# Altium integrated library NSC ADC.IntLib: 493 symbols (part 6 of 17)
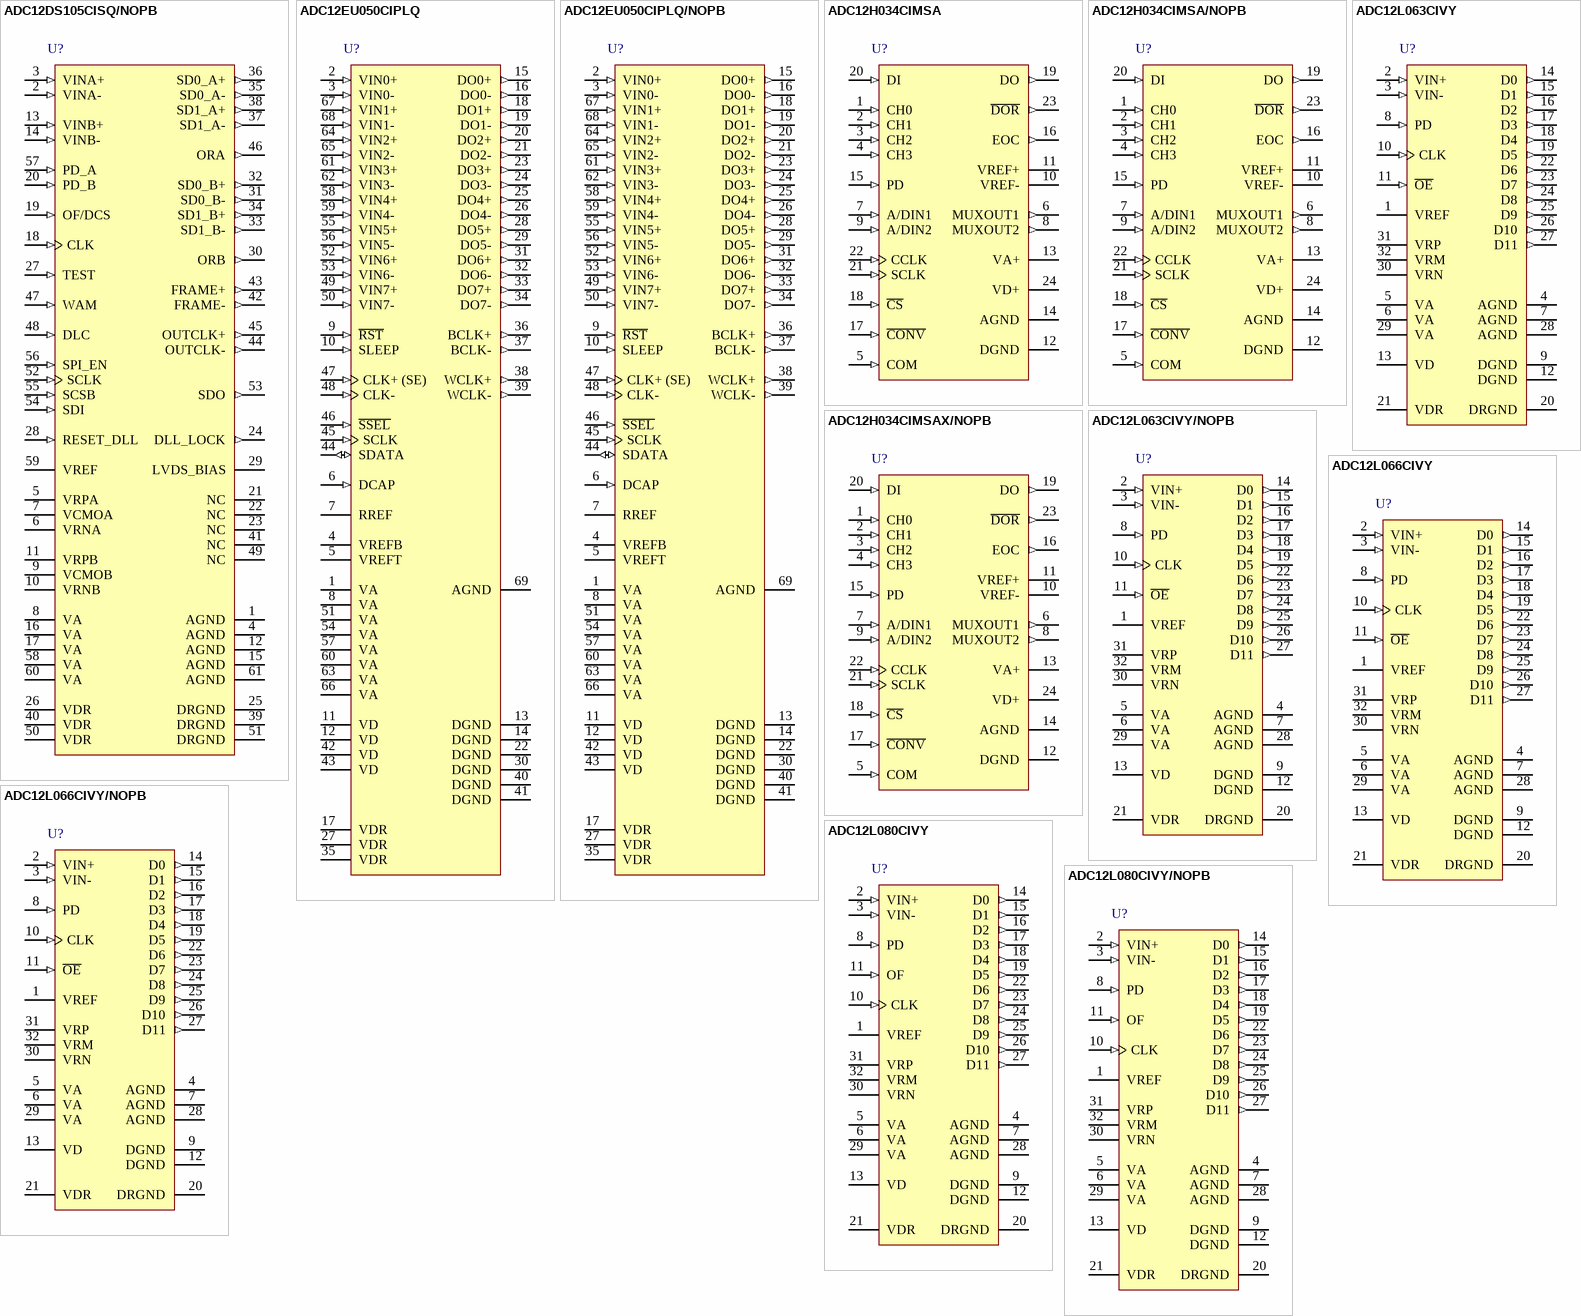
[diagram p41: symbols ADC12DS105CISQ/NOPB to ADC12L080CIVY/NOPB]

## ADC12EU050CIPLQ
designator U?
Ultra-Low Power, Octal, 12-bit, 40-50 MSPS Sigma-Delta Analog-to-Digital Converter, 69-pin LLP; PartNumber: ADC12EU050CIPLQ; Manufacturer: National Semiconductor; PackageTopMarking: NS*UZXYTT*12EU050P; PowerWise: N; CompType: ADC IC; Published: 4-Dec-2008; DatasheetVersion: Oct-2009; PackageVersion: revB, Jul-2009; PackageReference: LQA68A; Publisher: Altium Limited; PackageDescription: LLP, Plastic, Quad, 10 x 10 x 1mm Body, 68 Lead, 0.5mm Pitch (7.7 x 7.7mm Exposed Pad); Supplier 1: Farnell; Supplier Part Number 1: 1689550; RoHS: Y; PinCount: 68; ComponentLink1Description: ADC12EU050 Datasheet; ComponentLink1URL: http://www.national.com/ds/AD/ADC12EU050.pdf; ComponentLink2Description: ADC12EU050 Web Page; ComponentLink2URL: http://www.national.com/pf/AD/ADC12EU050.html; ComponentLink3Description: LQA68A Package Page; ComponentLink3URL: http://www.national.com/packaging/folders/lqa68a.html
footprint LQA68A (QFN, 68-Leads, Body 10x10mm, Pitch 0.5mm, NSC Recommended)
pins: 1 VA (power), 2 VIN0+ (in), 3 VIN0- (in), 4 VREFB (power), 5 VREFT (power), 6 DCAP (in), 7 RREF, 8 VA (power), 9 ~{RST} (in), 10 SLEEP (in), 11 VD (power), 12 VD (power), 13 DGND (power), 14 DGND (power), 15 DO0+ (out), 16 DO0- (out), 17 VDR (power), 18 DO1+ (out), 19 DO1- (out), 20 DO2+ (out), 21 DO2- (out), 22 DGND (power), 23 DO3+ (out), 24 DO3- (out), 25 DO4+ (out), 26 DO4- (out), 27 VDR (power), 28 DO5+ (out), 29 DO5- (out), 30 DGND (power), 31 DO6+ (out), 32 DO6- (out), 33 DO7+ (out), 34 DO7- (out), 35 VDR (power), 36 BCLK+ (out), 37 BCLK- (out), 38 WCLK+ (out), 39 WCLK- (out), 40 DGND (power), 41 DGND (power), 42 VD (power), 43 VD (power), 44 SDATA (io), 45 SCLK (in), 46 ~{SSEL} (in), 47 CLK+ (SE) (in), 48 CLK- (in), 49 VIN7+ (in), 50 VIN7- (in), 51 VA (power), 52 VIN6+ (in), 53 VIN6- (in), 54 VA (power), 55 VIN5+ (in), 56 VIN5- (in), 57 VA (power), 58 VIN4+ (in), 59 VIN4- (in), 60 VA (power), 61 VIN3+ (in), 62 VIN3- (in), 63 VA (power), 64 VIN2+ (in), 65 VIN2- (in), 66 VA (power), 67 VIN1+ (in), 68 VIN1- (in), 69 AGND (power)

## ADC12EU050CIPLQ/NOPB
designator U?
Ultra-Low Power, Octal, 12-bit, 40-50 MSPS Sigma-Delta Analog-to-Digital Converter, 68-pin LLP, Pb-Free; PartNumber: ADC12EU050CIPLQ/NOPB; Manufacturer: National Semiconductor; PackageTopMarking: NS*UZXYTTE#*12EU050P; PowerWise: Y; CompType: ADC IC; Published: 1-Mar-2010; DatasheetVersion: Oct-2009; PackageVersion: revB, Jul-2009; PackageReference: LQA68A; Publisher: Altium Limited; PackageDescription: LLP, Plastic, Quad, 10 x 10 x 1mm Body, 68 Lead, 0.5mm Pitch (7.7 x 7.7mm Exposed Pad); Supplier 1: Digi-Key; Supplier Part Number 1: ADC12EU050CIPLQ-ND; Supplier 2: Farnell; Supplier Part Number 2: 1690910; RoHS: Y; PinCount: 68; ComponentLink1Description: ADC12EU050 Datasheet; ComponentLink1URL: http://www.national.com/ds/AD/ADC12EU050.pdf; ComponentLink2Description: ADC12EU050 Web Page; ComponentLink2URL: http://www.national.com/pf/AD/ADC12EU050.html; ComponentLink3Description: LQA68A Package Page; ComponentLink3URL: http://www.national.com/packaging/folders/lqa68a.html
footprint LQA68A (QFN, 68-Leads, Body 10x10mm, Pitch 0.5mm, NSC Recommended)
pins: 1 VA (power), 2 VIN0+ (in), 3 VIN0- (in), 4 VREFB (power), 5 VREFT (power), 6 DCAP (in), 7 RREF, 8 VA (power), 9 ~{RST} (in), 10 SLEEP (in), 11 VD (power), 12 VD (power), 13 DGND (power), 14 DGND (power), 15 DO0+ (out), 16 DO0- (out), 17 VDR (power), 18 DO1+ (out), 19 DO1- (out), 20 DO2+ (out), 21 DO2- (out), 22 DGND (power), 23 DO3+ (out), 24 DO3- (out), 25 DO4+ (out), 26 DO4- (out), 27 VDR (power), 28 DO5+ (out), 29 DO5- (out), 30 DGND (power), 31 DO6+ (out), 32 DO6- (out), 33 DO7+ (out), 34 DO7- (out), 35 VDR (power), 36 BCLK+ (out), 37 BCLK- (out), 38 WCLK+ (out), 39 WCLK- (out), 40 DGND (power), 41 DGND (power), 42 VD (power), 43 VD (power), 44 SDATA (io), 45 SCLK (in), 46 ~{SSEL} (in), 47 CLK+ (SE) (in), 48 CLK- (in), 49 VIN7+ (in), 50 VIN7- (in), 51 VA (power), 52 VIN6+ (in), 53 VIN6- (in), 54 VA (power), 55 VIN5+ (in), 56 VIN5- (in), 57 VA (power), 58 VIN4+ (in), 59 VIN4- (in), 60 VA (power), 61 VIN3+ (in), 62 VIN3- (in), 63 VA (power), 64 VIN2+ (in), 65 VIN2- (in), 66 VA (power), 67 VIN1+ (in), 68 VIN1- (in), 69 AGND (power)

## ADC12H034CIMSA
designator U?
Self-Calibrating 12-Bit Plus Sign Serial I/O A/D Converters with MUX and Sample/Hold, 24-pin SSOP; PartNumber: ADC12H034CIMSA; Manufacturer: National Semiconductor; PackageTopMarking: NSUZXYTTE#*ADC12H034*CIMSA; PowerWise: N; CompType: ADC IC; Published: 4-Dec-2008; LatestRevisionDate: 1-Oct-2010; LatestRevisionNote: Updated datasheet to version Sep-2008.; DatasheetVersion: Sep-2008; PackageVersion: revC, Nov-2002; PackageReference: MSA24; Publisher: Altium Limited; PackageDescription: Molded SSOP, 8.2 x 5.3mm Body, 24 Lead, 0.65mm Pitch; RoHS: N; PinCount: 24; Code_JEDEC: MO-150-AG; ComponentLink1Description: ADC12H034 Datasheet; ComponentLink1URL: http://www.national.com/ds/AD/ADC12H034.pdf; ComponentLink2Description: ADC12H034 Web Page; ComponentLink2URL: http://www.national.com/pf/AD/ADC12H034.html; ComponentLink3Description: MSA24 Package Page; ComponentLink3URL: http://www.national.com/packaging/folders/msa24.html
footprint MSA24_N (SOP, 24-Leads, Body 8.2x5.3mm, Pitch 0.65mm, IPC Medium Density)
footprint MSA24_L (SOP, 24-Leads, Body 8.2x5.3mm, Pitch 0.65mm, IPC High Density)
footprint MSA24_M (SOP, 24-Leads, Body 8.2x5.3mm, Pitch 0.65mm, IPC Low Density)
pins: 1 CH0 (in), 2 CH1 (in), 3 CH2 (in), 4 CH3 (in), 5 COM (in), 6 MUXOUT1 (out), 7 A/DIN1 (in), 8 MUXOUT2 (out), 9 A/DIN2 (in), 10 VREF- (power), 11 VREF+ (power), 12 DGND (power), 13 VA+ (power), 14 AGND (power), 15 PD (in), 16 EOC (out), 17 ~{CONV} (in), 18 ~{CS} (in), 19 DO (out), 20 DI (in), 21 SCLK (in), 22 CCLK (in), 23 ~{DOR} (out), 24 VD+ (power)

## ADC12H034CIMSA/NOPB
designator U?
Self-Calibrating 12-Bit Plus Sign Serial I/O A/D Converters with MUX and Sample/Hold, 24 pin SSOP-EIAJ; PartNumber: ADC12H034CIMSA/NOPB; Manufacturer: National Semiconductor; PackageTopMarking: NSUZXYTTE#*ADC12H034*CIMSA; PowerWise: N; CompType: ADC IC; Published: 16-Nov-2010; DatasheetVersion: Sep-2008; PackageVersion: revC, Nov-2002; PackageReference: MSA24; Publisher: Altium Limited; PackageDescription: Molded SSOP, 8.2 x 5.3mm Body, 24 Lead, 0.65mm Pitch; Supplier 1: Digi-Key; Supplier Part Number 1: ADC12H034CIMSA-ND; RoHS: Y; PinCount: 24; Code_JEDEC: MO-150-AG; ComponentLink1Description: ADC12H034 Datasheet; ComponentLink1URL: http://www.national.com/ds/AD/ADC12H034.pdf; ComponentLink2Description: ADC12H034 Web Page; ComponentLink2URL: http://www.national.com/pf/AD/ADC12H034.html; ComponentLink3Description: MSA24 Package Page; ComponentLink3URL: http://www.national.com/packaging/folders/msa24.html
footprint MSA24_N (SOP, 24-Leads, Body 8.2x5.3mm, Pitch 0.65mm, IPC Medium Density)
footprint MSA24_L (SOP, 24-Leads, Body 8.2x5.3mm, Pitch 0.65mm, IPC High Density)
footprint MSA24_M (SOP, 24-Leads, Body 8.2x5.3mm, Pitch 0.65mm, IPC Low Density)
pins: 1 CH0 (in), 2 CH1 (in), 3 CH2 (in), 4 CH3 (in), 5 COM (in), 6 MUXOUT1 (out), 7 A/DIN1 (in), 8 MUXOUT2 (out), 9 A/DIN2 (in), 10 VREF- (power), 11 VREF+ (power), 12 DGND (power), 13 VA+ (power), 14 AGND (power), 15 PD (in), 16 EOC (out), 17 ~{CONV} (in), 18 ~{CS} (in), 19 DO (out), 20 DI (in), 21 SCLK (in), 22 CCLK (in), 23 ~{DOR} (out), 24 VD+ (power)

## ADC12H034CIMSAX/NOPB
designator U?
Self-Calibrating 12-Bit Plus Sign Serial I/O A/D Converters with MUX and Sample/Hold, 24 pin SSOP-EIAJ; PartNumber: ADC12H034CIMSAX/NOPB; Manufacturer: National Semiconductor; PackageTopMarking: NSUZXYTTE#*ADC12H034*CIMSA; PowerWise: N; CompType: ADC IC; Published: 16-Nov-2010; DatasheetVersion: Sep-2008; PackageVersion: revC, Nov-2002; PackageReference: MSA24; Publisher: Altium Limited; PackageDescription: Molded SSOP, 8.2 x 5.3mm Body, 24 Lead, 0.65mm Pitch; Supplier 1: Digi-Key; Supplier Part Number 1: ADC12H034CIMSAX-ND; RoHS: Y; PinCount: 24; Code_JEDEC: MO-150-AG; ComponentLink1Description: ADC12H034 Datasheet; ComponentLink1URL: http://www.national.com/ds/AD/ADC12H034.pdf; ComponentLink2Description: ADC12H034 Web Page; ComponentLink2URL: http://www.national.com/pf/AD/ADC12H034.html; ComponentLink3Description: MSA24 Package Page; ComponentLink3URL: http://www.national.com/packaging/folders/msa24.html
footprint MSA24_N (SOP, 24-Leads, Body 8.2x5.3mm, Pitch 0.65mm, IPC Medium Density)
footprint MSA24_L (SOP, 24-Leads, Body 8.2x5.3mm, Pitch 0.65mm, IPC High Density)
footprint MSA24_M (SOP, 24-Leads, Body 8.2x5.3mm, Pitch 0.65mm, IPC Low Density)
pins: 1 CH0 (in), 2 CH1 (in), 3 CH2 (in), 4 CH3 (in), 5 COM (in), 6 MUXOUT1 (out), 7 A/DIN1 (in), 8 MUXOUT2 (out), 9 A/DIN2 (in), 10 VREF- (power), 11 VREF+ (power), 12 DGND (power), 13 VA+ (power), 14 AGND (power), 15 PD (in), 16 EOC (out), 17 ~{CONV} (in), 18 ~{CS} (in), 19 DO (out), 20 DI (in), 21 SCLK (in), 22 CCLK (in), 23 ~{DOR} (out), 24 VD+ (power)

## ADC12L063CIVY
designator U?
12-Bit, 62 MSPS, 354mW A/D Converter with Internal Sample-and-Hold, 32-pin LQFP; PartNumber: ADC12L063CIVY; Manufacturer: National Semiconductor; PackageTopMarking: NSUZXYTT*ADC12L0*63CIVY; PowerWise: N; CompType: ADC IC; Published: 4-Dec-2008; DatasheetVersion: Jul-2001; PackageVersion: revE, Dec-1999; PackageReference: VBE32A; Publisher: Altium Limited; PackageDescription: LQFP, JEDEC, Metric, 7 x 7 x 1.4mm, 32 Lead; RoHS: N; PinCount: 32; ComponentLink1Description: ADC12L063 Datasheet; ComponentLink1URL: http://www.national.com/ds/AD/ADC12L063.pdf; ComponentLink2Description: ADC12L063 Web Page; ComponentLink2URL: http://www.national.com/pf/AD/ADC12L063.html; ComponentLink3Description: VBE32A Package Page; ComponentLink3URL: http://www.national.com/packaging/folders/vbe32a.html
footprint VBE32A_N (Thin QFP, 32-Leads, Body 7x7mm, Pitch 0.8mm, IPC Medium Density)
footprint VBE32A_L (Thin QFP, 32-Leads, Body 7x7mm, Pitch 0.8mm, IPC High Density)
footprint VBE32A_M (Thin QFP, 32-Leads, Body 7x7mm, Pitch 0.8mm, IPC Low Density)
pins: 1 VREF (power), 2 VIN+ (in), 3 VIN- (in), 4 AGND (power), 5 VA (power), 6 VA (power), 7 AGND (power), 8 PD (in), 9 DGND (power), 10 CLK (in), 11 ~{OE} (in), 12 DGND (power), 13 VD (power), 14 D0 (out), 15 D1 (out), 16 D2 (out), 17 D3 (out), 18 D4 (out), 19 D5 (out), 20 DRGND (power), 21 VDR (power), 22 D6 (out), 23 D7 (out), 24 D8 (out), 25 D9 (out), 26 D10 (out), 27 D11 (out), 28 AGND (power), 29 VA (power), 30 VRN, 31 VRP, 32 VRM

## ADC12L063CIVY/NOPB
designator U?
12-Bit, 62 MSPS, 354mW A/D Converter with Internal Sample-and-Hold, 32-pin LQFP, Pb-Free; PartNumber: ADC12L063CIVY/NOPB; Manufacturer: National Semiconductor; PackageTopMarking: NSUZXYTT*ADC12L0*63CIVY; PowerWise: N; CompType: ADC IC; Published: 1-Mar-2010; DatasheetVersion: Jul-2001; PackageVersion: revE, Dec-1999; PackageReference: VBE32A; Publisher: Altium Limited; PackageDescription: LQFP, JEDEC, Metric, 7 x 7 x 1.4mm, 32 Lead; Supplier 1: Digi-Key; Supplier Part Number 1: ADC12L063CIVY-ND; RoHS: Y; PinCount: 32; ComponentLink1Description: ADC12L063 Datasheet; ComponentLink1URL: http://www.national.com/ds/AD/ADC12L063.pdf; ComponentLink2Description: ADC12L063 Web Page; ComponentLink2URL: http://www.national.com/pf/AD/ADC12L063.html; ComponentLink3Description: VBE32A Package Page; ComponentLink3URL: http://www.national.com/packaging/folders/vbe32a.html
footprint VBE32A_N (Thin QFP, 32-Leads, Body 7x7mm, Pitch 0.8mm, IPC Medium Density)
footprint VBE32A_L (Thin QFP, 32-Leads, Body 7x7mm, Pitch 0.8mm, IPC High Density)
footprint VBE32A_M (Thin QFP, 32-Leads, Body 7x7mm, Pitch 0.8mm, IPC Low Density)
pins: 1 VREF (power), 2 VIN+ (in), 3 VIN- (in), 4 AGND (power), 5 VA (power), 6 VA (power), 7 AGND (power), 8 PD (in), 9 DGND (power), 10 CLK (in), 11 ~{OE} (in), 12 DGND (power), 13 VD (power), 14 D0 (out), 15 D1 (out), 16 D2 (out), 17 D3 (out), 18 D4 (out), 19 D5 (out), 20 DRGND (power), 21 VDR (power), 22 D6 (out), 23 D7 (out), 24 D8 (out), 25 D9 (out), 26 D10 (out), 27 D11 (out), 28 AGND (power), 29 VA (power), 30 VRN, 31 VRP, 32 VRM

## ADC12L066CIVY
designator U?
12-Bit, 66 MSPS, 450 MHz Bandwidth A/D Converter with Internal Sample-and-Hold, 32-pin LQFP; PartNumber: ADC12L066CIVY; Manufacturer: National Semiconductor; PackageTopMarking: NSUZXYTT*ADC12L0*66CIVY; PowerWise: N; CompType: ADC IC; Published: 4-Dec-2008; DatasheetVersion: May-2009; PackageVersion: revE, Dec-1999; PackageReference: VBE32A; Publisher: Altium Limited; PackageDescription: LQFP, JEDEC, Metric, 7 x 7 x 1.4mm, 32 Lead; RoHS: N; PinCount: 32; ComponentLink1Description: ADC12L066 Datasheet; ComponentLink1URL: http://www.national.com/ds/AD/ADC12L066.pdf; ComponentLink2Description: ADC12L066 Web Page; ComponentLink2URL: http://www.national.com/pf/AD/ADC12L066.html; ComponentLink3Description: VBE32A Package Page; ComponentLink3URL: http://www.national.com/packaging/folders/vbe32a.html
footprint VBE32A_N (Thin QFP, 32-Leads, Body 7x7mm, Pitch 0.8mm, IPC Medium Density)
footprint VBE32A_L (Thin QFP, 32-Leads, Body 7x7mm, Pitch 0.8mm, IPC High Density)
footprint VBE32A_M (Thin QFP, 32-Leads, Body 7x7mm, Pitch 0.8mm, IPC Low Density)
pins: 1 VREF (power), 2 VIN+ (in), 3 VIN- (in), 4 AGND (power), 5 VA (power), 6 VA (power), 7 AGND (power), 8 PD (in), 9 DGND (power), 10 CLK (in), 11 ~{OE} (in), 12 DGND (power), 13 VD (power), 14 D0 (out), 15 D1 (out), 16 D2 (out), 17 D3 (out), 18 D4 (out), 19 D5 (out), 20 DRGND (power), 21 VDR (power), 22 D6 (out), 23 D7 (out), 24 D8 (out), 25 D9 (out), 26 D10 (out), 27 D11 (out), 28 AGND (power), 29 VA (power), 30 VRN, 31 VRP, 32 VRM

## ADC12L066CIVY/NOPB
designator U?
12-Bit, 66 MSPS, 450 MHz Bandwidth A/D Converter with Internal Sample-and-Hold, 32-pin LQFP, Pb-Free; PartNumber: ADC12L066CIVY/NOPB; Manufacturer: National Semiconductor; PackageTopMarking: NSUZXYTT*ADC12L0*66CIVY; PowerWise: N; CompType: ADC IC; Published: 1-Mar-2010; DatasheetVersion: May-2009; PackageVersion: revE, Dec-1999; PackageReference: VBE32A; Publisher: Altium Limited; PackageDescription: LQFP, JEDEC, Metric, 7 x 7 x 1.4mm, 32 Lead; Supplier 1: Digi-Key; Supplier Part Number 1: ADC12L066CIVY-ND; RoHS: Y; PinCount: 32; ComponentLink1Description: ADC12L066 Datasheet; ComponentLink1URL: http://www.national.com/ds/AD/ADC12L066.pdf; ComponentLink2Description: ADC12L066 Web Page; ComponentLink2URL: http://www.national.com/pf/AD/ADC12L066.html; ComponentLink3Description: VBE32A Package Page; ComponentLink3URL: http://www.national.com/packaging/folders/vbe32a.html
footprint VBE32A_N (Thin QFP, 32-Leads, Body 7x7mm, Pitch 0.8mm, IPC Medium Density)
footprint VBE32A_L (Thin QFP, 32-Leads, Body 7x7mm, Pitch 0.8mm, IPC High Density)
footprint VBE32A_M (Thin QFP, 32-Leads, Body 7x7mm, Pitch 0.8mm, IPC Low Density)
pins: 1 VREF (power), 2 VIN+ (in), 3 VIN- (in), 4 AGND (power), 5 VA (power), 6 VA (power), 7 AGND (power), 8 PD (in), 9 DGND (power), 10 CLK (in), 11 ~{OE} (in), 12 DGND (power), 13 VD (power), 14 D0 (out), 15 D1 (out), 16 D2 (out), 17 D3 (out), 18 D4 (out), 19 D5 (out), 20 DRGND (power), 21 VDR (power), 22 D6 (out), 23 D7 (out), 24 D8 (out), 25 D9 (out), 26 D10 (out), 27 D11 (out), 28 AGND (power), 29 VA (power), 30 VRN, 31 VRP, 32 VRM

## ADC12L080CIVY
designator U?
12-Bit, 80 MSPS, 450 MHz Bandwidth A/D Converter with Internal Reference, 32-pin LQFP; PartNumber: ADC12L080CIVY; Manufacturer: National Semiconductor; PackageTopMarking: NSUZXYTT*ADC12L0*80CIVY; PowerWise: N; CompType: ADC IC; Published: 4-Dec-2008; DatasheetVersion: Oct-2004; PackageVersion: revE, Dec-1999; PackageReference: VBE32A; Publisher: Altium Limited; PackageDescription: LQFP, JEDEC, Metric, 7 x 7 x 1.4mm, 32 Lead; RoHS: N; PinCount: 32; ComponentLink1Description: ADC12L080 Datasheet; ComponentLink1URL: http://www.national.com/ds/AD/ADC12L080.pdf; ComponentLink2Description: ADC12L080 Web Page; ComponentLink2URL: http://www.national.com/pf/AD/ADC12L080.html; ComponentLink3Description: VBE32A Package Page; ComponentLink3URL: http://www.national.com/packaging/folders/vbe32a.html
footprint VBE32A_N (Thin QFP, 32-Leads, Body 7x7mm, Pitch 0.8mm, IPC Medium Density)
footprint VBE32A_L (Thin QFP, 32-Leads, Body 7x7mm, Pitch 0.8mm, IPC High Density)
footprint VBE32A_M (Thin QFP, 32-Leads, Body 7x7mm, Pitch 0.8mm, IPC Low Density)
pins: 1 VREF (power), 2 VIN+ (in), 3 VIN- (in), 4 AGND (power), 5 VA (power), 6 VA (power), 7 AGND (power), 8 PD (in), 9 DGND (power), 10 CLK (in), 11 OF (in), 12 DGND (power), 13 VD (power), 14 D0 (out), 15 D1 (out), 16 D2 (out), 17 D3 (out), 18 D4 (out), 19 D5 (out), 20 DRGND (power), 21 VDR (power), 22 D6 (out), 23 D7 (out), 24 D8 (out), 25 D9 (out), 26 D10 (out), 27 D11 (out), 28 AGND (power), 29 VA (power), 30 VRN, 31 VRP, 32 VRM

## ADC12L080CIVY/NOPB
designator U?
12-Bit, 80 MSPS, 450 MHz Bandwidth A/D Converter with Internal Reference, 32-pin LQFP, Pb-Free; PartNumber: ADC12L080CIVY/NOPB; Manufacturer: National Semiconductor; PackageTopMarking: NSUZXYTT*ADC12L0*80CIVY; PowerWise: N; CompType: ADC IC; Published: 1-Mar-2010; DatasheetVersion: Oct-2004; PackageVersion: revE, Dec-1999; PackageReference: VBE32A; Publisher: Altium Limited; PackageDescription: LQFP, JEDEC, Metric, 7 x 7 x 1.4mm, 32 Lead; Supplier 1: Digi-Key; Supplier Part Number 1: ADC12L080CIVY-ND; RoHS: Y; PinCount: 32; ComponentLink1Description: ADC12L080 Datasheet; ComponentLink1URL: http://www.national.com/ds/AD/ADC12L080.pdf; ComponentLink2Description: ADC12L080 Web Page; ComponentLink2URL: http://www.national.com/pf/AD/ADC12L080.html; ComponentLink3Description: VBE32A Package Page; ComponentLink3URL: http://www.national.com/packaging/folders/vbe32a.html
footprint VBE32A_N (Thin QFP, 32-Leads, Body 7x7mm, Pitch 0.8mm, IPC Medium Density)
footprint VBE32A_L (Thin QFP, 32-Leads, Body 7x7mm, Pitch 0.8mm, IPC High Density)
footprint VBE32A_M (Thin QFP, 32-Leads, Body 7x7mm, Pitch 0.8mm, IPC Low Density)
pins: 1 VREF (power), 2 VIN+ (in), 3 VIN- (in), 4 AGND (power), 5 VA (power), 6 VA (power), 7 AGND (power), 8 PD (in), 9 DGND (power), 10 CLK (in), 11 OF (in), 12 DGND (power), 13 VD (power), 14 D0 (out), 15 D1 (out), 16 D2 (out), 17 D3 (out), 18 D4 (out), 19 D5 (out), 20 DRGND (power), 21 VDR (power), 22 D6 (out), 23 D7 (out), 24 D8 (out), 25 D9 (out), 26 D10 (out), 27 D11 (out), 28 AGND (power), 29 VA (power), 30 VRN, 31 VRP, 32 VRM

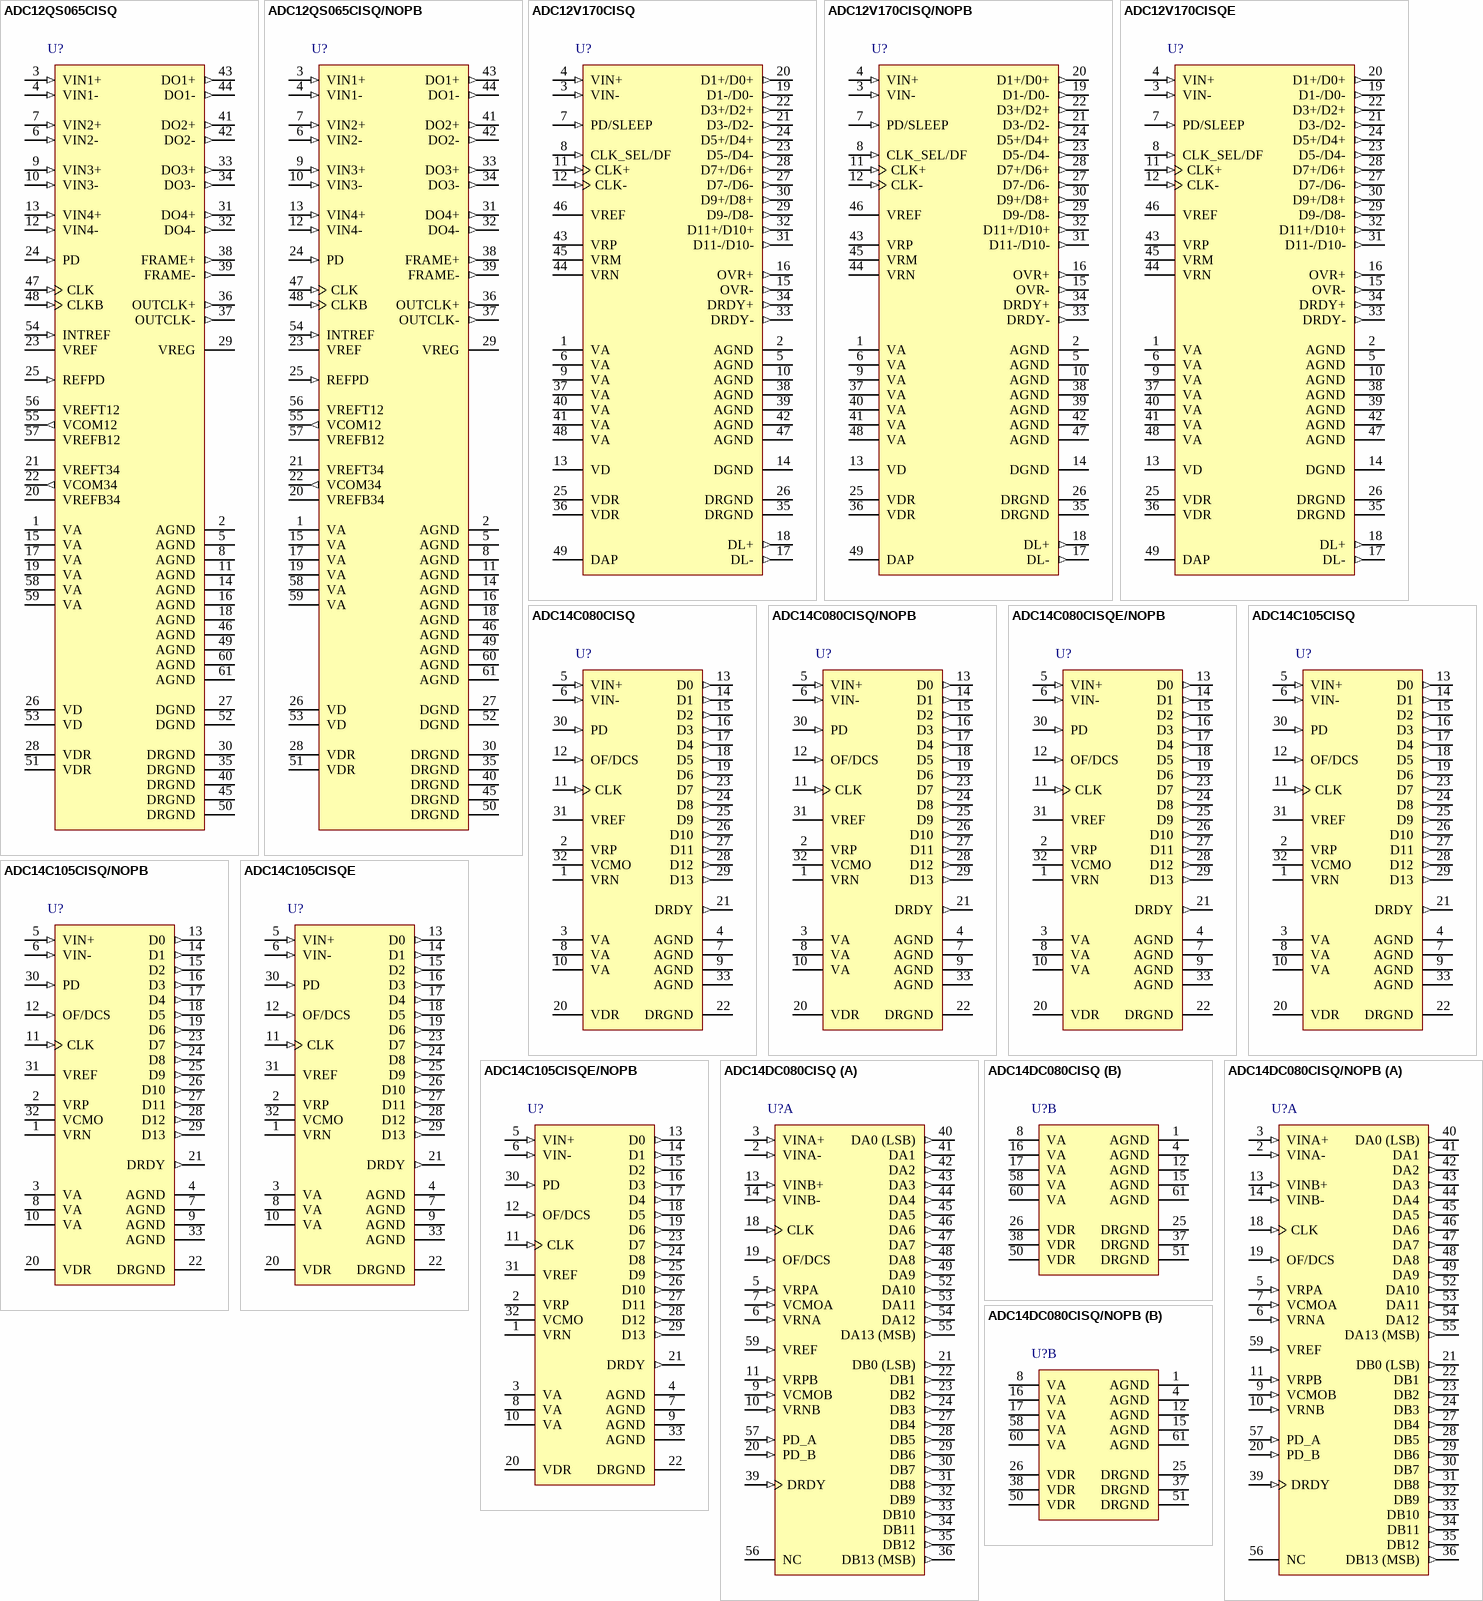
[diagram p19: symbols ADC12QS065CISQ to ADC14DC080CISQ/NOPB]

## ADC12QS065CISQ
designator U?
Quad 12-Bit 65 MSPS A/D Converter with LVDS Serialized Outputs, 61-pin LLP; PartNumber: ADC12QS065CISQ; Manufacturer: National Semiconductor; PackageTopMarking: NS*UZXYTTE#*12QS065*CISQ; PowerWise: Y; CompType: ADC IC; Published: 4-Dec-2008; DatasheetVersion: Nov-2006; PackageVersion: revA, Jun-2005; PackageReference: SQA60A; Publisher: Altium Limited; PackageDescription: LLP, Quad, 9 x 9 x 0.8mm, 60 Lead, 0.5mm Pitch, No Pullback; Supplier 1: Farnell; Supplier Part Number 1: 1286812; RoHS: N; PinCount: 60; ComponentLink1Description: ADC12QS065 Datasheet; ComponentLink1URL: http://www.national.com/ds/AD/ADC12QS065.pdf; ComponentLink2Description: ADC12QS065 Web Page; ComponentLink2URL: http://www.national.com/pf/AD/ADC12QS065.html; ComponentLink3Description: SQA60A Package Page; ComponentLink3URL: http://www.national.com/packaging/folders/sqa60a.html
footprint SQA60A (QFN, 60-Leads, Body 9x9mm, Pitch 0.5mm, NSC Recommended)
pins: 1 VA (power), 2 AGND (power), 3 VIN1+ (in), 4 VIN1- (in), 5 AGND (power), 6 VIN2- (in), 7 VIN2+ (in), 8 AGND (power), 9 VIN3+ (in), 10 VIN3- (in), 11 AGND (power), 12 VIN4- (in), 13 VIN4+ (in), 14 AGND (power), 15 VA (power), 16 AGND (power), 17 VA (power), 18 AGND (power), 19 VA (power), 20 VREFB34 (power), 21 VREFT34 (power), 22 VCOM34 (out), 23 VREF (power), 24 PD (in), 25 REFPD (in), 26 VD (power), 27 DGND (power), 28 VDR (power), 29 VREG, 30 DRGND (power), 31 DO4+ (out), 32 DO4- (out), 33 DO3+ (out), 34 DO3- (out), 35 DRGND (power), 36 OUTCLK+ (out), 37 OUTCLK- (out), 38 FRAME+ (out), 39 FRAME- (out), 40 DRGND (power), 41 DO2+ (out), 42 DO2- (out), 43 DO1+ (out), 44 DO1- (out), 45 DRGND (power), 46 AGND (power), 47 CLK (in), 48 CLKB (in), 49 AGND (power), 50 DRGND (power), 51 VDR (power), 52 DGND (power), 53 VD (power), 54 INTREF (in), 55 VCOM12 (out), 56 VREFT12 (power), 57 VREFB12 (power), 58 VA (power), 59 VA (power), 60 AGND (power), 61 AGND (power)

## ADC12QS065CISQ/NOPB
designator U?
Quad 12-Bit 65 MSPS A/D Converter with LVDS Serialized Outputs, 60-pin LLP, Pb-Free; PartNumber: ADC12QS065CISQ/NOPB; Manufacturer: National Semiconductor; PackageTopMarking: NS*UZXYTTE#*12QS065*CISQ; PowerWise: Y; CompType: ADC IC; Published: 1-Mar-2010; DatasheetVersion: Nov-2006; PackageVersion: revA, Jun-2005; PackageReference: SQA60A; Publisher: Altium Limited; PackageDescription: LLP, Quad, 9 x 9 x 0.8mm, 60 Lead, 0.5mm Pitch, No Pullback; Supplier 1: Digi-Key; Supplier Part Number 1: ADC12QS065CISQTR-ND; Supplier 2: Digi-Key; Supplier Part Number 2: ADC12QS065CISQCT-ND; Supplier 3: Digi-Key; Supplier Part Number 3: ADC12QS065CISQDKR-ND; RoHS: Y; PinCount: 60; ComponentLink1Description: ADC12QS065 Datasheet; ComponentLink1URL: http://www.national.com/ds/AD/ADC12QS065.pdf; ComponentLink2Description: ADC12QS065 Web Page; ComponentLink2URL: http://www.national.com/pf/AD/ADC12QS065.html; ComponentLink3Description: SQA60A Package Page; ComponentLink3URL: http://www.national.com/packaging/folders/sqa60a.html
footprint SQA60A (QFN, 60-Leads, Body 9x9mm, Pitch 0.5mm, NSC Recommended)
pins: 1 VA (power), 2 AGND (power), 3 VIN1+ (in), 4 VIN1- (in), 5 AGND (power), 6 VIN2- (in), 7 VIN2+ (in), 8 AGND (power), 9 VIN3+ (in), 10 VIN3- (in), 11 AGND (power), 12 VIN4- (in), 13 VIN4+ (in), 14 AGND (power), 15 VA (power), 16 AGND (power), 17 VA (power), 18 AGND (power), 19 VA (power), 20 VREFB34 (power), 21 VREFT34 (power), 22 VCOM34 (out), 23 VREF (power), 24 PD (in), 25 REFPD (in), 26 VD (power), 27 DGND (power), 28 VDR (power), 29 VREG, 30 DRGND (power), 31 DO4+ (out), 32 DO4- (out), 33 DO3+ (out), 34 DO3- (out), 35 DRGND (power), 36 OUTCLK+ (out), 37 OUTCLK- (out), 38 FRAME+ (out), 39 FRAME- (out), 40 DRGND (power), 41 DO2+ (out), 42 DO2- (out), 43 DO1+ (out), 44 DO1- (out), 45 DRGND (power), 46 AGND (power), 47 CLK (in), 48 CLKB (in), 49 AGND (power), 50 DRGND (power), 51 VDR (power), 52 DGND (power), 53 VD (power), 54 INTREF (in), 55 VCOM12 (out), 56 VREFT12 (power), 57 VREFB12 (power), 58 VA (power), 59 VA (power), 60 AGND (power), 61 AGND (power)

## ADC12V170CISQ
designator U?
12-Bit, 170 MSPS, 1.1 GHz Bandwidth A/D Converter with LVDS Outputs, 49-pin LLP; PartNumber: ADC12V170CISQ; Manufacturer: National Semiconductor; PackageTopMarking: NS*UZXYTTE#*ADC12V170; PowerWise: Y; CompType: ADC IC; Published: 4-Dec-2008; DatasheetVersion: Apr-2009; PackageVersion: revB, May-2009; PackageReference: SQA48A; Publisher: Altium Limited; PackageDescription: LLP, Plastic, Quad, 7 x 7 x 0.8mm Body, 48 Lead, 0.5mm Pitch, No Pullback; RoHS: N; PinCount: 48; Code_JEDEC: MO-220-WKKD-2; ComponentLink1Description: ADC12V170 Datasheet; ComponentLink1URL: http://www.national.com/ds/AD/ADC12V170.pdf; ComponentLink2Description: ADC12V170 Web Page; ComponentLink2URL: http://www.national.com/pf/AD/ADC12V170.html; ComponentLink3Description: SQA48A Package Page; ComponentLink3URL: http://www.national.com/packaging/folders/sqa48a.html
footprint SQA48A (QFN, 48-Leads, Body 7x7mm, Pitch 0.5mm, NSC Recommended)
pins: 1 VA (power), 2 AGND (power), 3 VIN- (in), 4 VIN+ (in), 5 AGND (power), 6 VA (power), 7 PD/SLEEP (in), 8 CLK_SEL/DF (in), 9 VA (power), 10 AGND (power), 11 CLK+ (in), 12 CLK- (in), 13 VD (power), 14 DGND (power), 15 OVR- (out), 16 OVR+ (out), 17 DL- (out), 18 DL+ (out), 19 D1-/D0- (out), 20 D1+/D0+ (out), 21 D3-/D2- (out), 22 D3+/D2+ (out), 23 D5-/D4- (out), 24 D5+/D4+ (out), 25 VDR (power), 26 DRGND (power), 27 D7-/D6- (out), 28 D7+/D6+ (out), 29 D9-/D8- (out), 30 D9+/D8+ (out), 31 D11-/D10- (out), 32 D11+/D10+ (out), 33 DRDY- (out), 34 DRDY+ (out), 35 DRGND (power), 36 VDR (power), 37 VA (power), 38 AGND (power), 39 AGND (power), 40 VA (power), 41 VA (power), 42 AGND (power), 43 VRP, 44 VRN, 45 VRM, 46 VREF (power), 47 AGND (power), 48 VA (power), 49 DAP (power)

## ADC12V170CISQ/NOPB
designator U?
12-Bit, 170 MSPS, 1.1 GHz Bandwidth A/D Converter with LVDS Outputs, 48-pin LLP, Pb-Free; PartNumber: ADC12V170CISQ/NOPB; Manufacturer: National Semiconductor; PackageTopMarking: NS*UZXYTTE#*ADC12V170; PowerWise: Y; CompType: ADC IC; Published: 1-Mar-2010; DatasheetVersion: Apr-2009; PackageVersion: revB, May-2009; PackageReference: SQA48A; Publisher: Altium Limited; PackageDescription: LLP, Plastic, Quad, 7 x 7 x 0.8mm Body, 48 Lead, 0.5mm Pitch, No Pullback; Supplier 1: Digi-Key; Supplier Part Number 1: ADC12V170CISQTR-ND; Supplier 2: Digi-Key; Supplier Part Number 2: ADC12V170CISQCT-ND; Supplier 3: Digi-Key; Supplier Part Number 3: ADC12V170CISQDKR-ND; Supplier 4: Farnell; Supplier Part Number 4: 1673961; RoHS: Y; PinCount: 48; Code_JEDEC: MO-220-WKKD-2; ComponentLink1Description: ADC12V170 Datasheet; ComponentLink1URL: http://www.national.com/ds/AD/ADC12V170.pdf; ComponentLink2Description: ADC12V170 Web Page; ComponentLink2URL: http://www.national.com/pf/AD/ADC12V170.html; ComponentLink3Description: SQA48A Package Page; ComponentLink3URL: http://www.national.com/packaging/folders/sqa48a.html
footprint SQA48A (QFN, 48-Leads, Body 7x7mm, Pitch 0.5mm, NSC Recommended)
pins: 1 VA (power), 2 AGND (power), 3 VIN- (in), 4 VIN+ (in), 5 AGND (power), 6 VA (power), 7 PD/SLEEP (in), 8 CLK_SEL/DF (in), 9 VA (power), 10 AGND (power), 11 CLK+ (in), 12 CLK- (in), 13 VD (power), 14 DGND (power), 15 OVR- (out), 16 OVR+ (out), 17 DL- (out), 18 DL+ (out), 19 D1-/D0- (out), 20 D1+/D0+ (out), 21 D3-/D2- (out), 22 D3+/D2+ (out), 23 D5-/D4- (out), 24 D5+/D4+ (out), 25 VDR (power), 26 DRGND (power), 27 D7-/D6- (out), 28 D7+/D6+ (out), 29 D9-/D8- (out), 30 D9+/D8+ (out), 31 D11-/D10- (out), 32 D11+/D10+ (out), 33 DRDY- (out), 34 DRDY+ (out), 35 DRGND (power), 36 VDR (power), 37 VA (power), 38 AGND (power), 39 AGND (power), 40 VA (power), 41 VA (power), 42 AGND (power), 43 VRP, 44 VRN, 45 VRM, 46 VREF (power), 47 AGND (power), 48 VA (power), 49 DAP (power)

## ADC12V170CISQE
designator U?
12-Bit, 170 MSPS, 1.1 GHz Bandwidth A/D Converter with LVDS Outputs, 49-pin LLP; PartNumber: ADC12V170CISQE; Manufacturer: National Semiconductor; PackageTopMarking: NS*UZXYTT*12V170SQE; PowerWise: Y; CompType: ADC IC; Published: 4-Dec-2008; DatasheetVersion: Apr-2009; PackageVersion: revB, May-2009; PackageReference: SQA48A; Publisher: Altium Limited; PackageDescription: LLP, Plastic, Quad, 7 x 7 x 0.8mm Body, 48 Lead, 0.5mm Pitch, No Pullback; Supplier 1: Digi-Key; Supplier Part Number 1: ADC12V170CISQE-ND; RoHS: N; PinCount: 48; Code_JEDEC: MO-220-WKKD-2; ComponentLink1Description: ADC12V170 Datasheet; ComponentLink1URL: http://www.national.com/ds/AD/ADC12V170.pdf; ComponentLink2Description: ADC12V170 Web Page; ComponentLink2URL: http://www.national.com/pf/AD/ADC12V170.html; ComponentLink3Description: SQA48A Package Page; ComponentLink3URL: http://www.national.com/packaging/folders/sqa48a.html
footprint SQA48A (QFN, 48-Leads, Body 7x7mm, Pitch 0.5mm, NSC Recommended)
pins: 1 VA (power), 2 AGND (power), 3 VIN- (in), 4 VIN+ (in), 5 AGND (power), 6 VA (power), 7 PD/SLEEP (in), 8 CLK_SEL/DF (in), 9 VA (power), 10 AGND (power), 11 CLK+ (in), 12 CLK- (in), 13 VD (power), 14 DGND (power), 15 OVR- (out), 16 OVR+ (out), 17 DL- (out), 18 DL+ (out), 19 D1-/D0- (out), 20 D1+/D0+ (out), 21 D3-/D2- (out), 22 D3+/D2+ (out), 23 D5-/D4- (out), 24 D5+/D4+ (out), 25 VDR (power), 26 DRGND (power), 27 D7-/D6- (out), 28 D7+/D6+ (out), 29 D9-/D8- (out), 30 D9+/D8+ (out), 31 D11-/D10- (out), 32 D11+/D10+ (out), 33 DRDY- (out), 34 DRDY+ (out), 35 DRGND (power), 36 VDR (power), 37 VA (power), 38 AGND (power), 39 AGND (power), 40 VA (power), 41 VA (power), 42 AGND (power), 43 VRP, 44 VRN, 45 VRM, 46 VREF (power), 47 AGND (power), 48 VA (power), 49 DAP (power)

## ADC14C080CISQ
designator U?
14-Bit, 65/80 MSPS A/D Converter, 33-pin LLP; PartNumber: ADC14C080CISQ; Manufacturer: National Semiconductor; PackageTopMarking: NS*UZXYTT*14C080; PowerWise: Y; CompType: ADC IC; Published: 4-Dec-2008; DatasheetVersion: Aug-2007; PackageVersion: revB, Oct-2009; PackageReference: SQA32A; Publisher: Altium Limited; PackageDescription: LLP, Quad, 5 x 5 x 0.8mm, 32 Lead, 0.5mm Pitch, No Pullback 3.1 x 3.1 Exposed Pad; RoHS: N; PinCount: 32; ComponentLink1Description: ADC14C080 Datasheet; ComponentLink1URL: http://www.national.com/ds/AD/ADC14C080.pdf; ComponentLink2Description: ADC14C080 Web Page; ComponentLink2URL: http://www.national.com/pf/AD/ADC14C080.html; ComponentLink3Description: SQA32A Package Page; ComponentLink3URL: http://www.national.com/packaging/folders/sqa32a.html
footprint SQA32A (QFN, 32-Leads, Body 5x5mm, Pitch 0.5mm, NSC Recommended)
pins: 1 VRN, 2 VRP, 3 VA (power), 4 AGND (power), 5 VIN+ (in), 6 VIN- (in), 7 AGND (power), 8 VA (power), 9 AGND (power), 10 VA (power), 11 CLK (in), 12 OF/DCS (in), 13 D0 (out), 14 D1 (out), 15 D2 (out), 16 D3 (out), 17 D4 (out), 18 D5 (out), 19 D6 (out), 20 VDR (power), 21 DRDY (out), 22 DRGND (power), 23 D7 (out), 24 D8 (out), 25 D9 (out), 26 D10 (out), 27 D11 (out), 28 D12 (out), 29 D13 (out), 30 PD (in), 31 VREF (power), 32 VCMO, 33 AGND (power)

## ADC14C080CISQ/NOPB
designator U?
14-Bit, 65/80 MSPS A/D Converter, 32-pin LLP, Pb-Free; PartNumber: ADC14C080CISQ/NOPB; Manufacturer: National Semiconductor; PackageTopMarking: NS*UZXYTT*14C080; PowerWise: Y; CompType: ADC IC; Published: 1-Mar-2010; DatasheetVersion: Aug-2007; PackageVersion: revB, Oct-2009; PackageReference: SQA32A; Publisher: Altium Limited; PackageDescription: LLP, Quad, 5 x 5 x 0.8mm, 32 Lead, 0.5mm Pitch, No Pullback 3.1 x 3.1 Exposed Pad; Supplier 1: Digi-Key; Supplier Part Number 1: ADC14C080CISQ-ND; RoHS: Y; PinCount: 32; ComponentLink1Description: ADC14C080 Datasheet; ComponentLink1URL: http://www.national.com/ds/AD/ADC14C080.pdf; ComponentLink2Description: ADC14C080 Web Page; ComponentLink2URL: http://www.national.com/pf/AD/ADC14C080.html; ComponentLink3Description: SQA32A Package Page; ComponentLink3URL: http://www.national.com/packaging/folders/sqa32a.html
footprint SQA32A (QFN, 32-Leads, Body 5x5mm, Pitch 0.5mm, NSC Recommended)
pins: 1 VRN, 2 VRP, 3 VA (power), 4 AGND (power), 5 VIN+ (in), 6 VIN- (in), 7 AGND (power), 8 VA (power), 9 AGND (power), 10 VA (power), 11 CLK (in), 12 OF/DCS (in), 13 D0 (out), 14 D1 (out), 15 D2 (out), 16 D3 (out), 17 D4 (out), 18 D5 (out), 19 D6 (out), 20 VDR (power), 21 DRDY (out), 22 DRGND (power), 23 D7 (out), 24 D8 (out), 25 D9 (out), 26 D10 (out), 27 D11 (out), 28 D12 (out), 29 D13 (out), 30 PD (in), 31 VREF (power), 32 VCMO, 33 AGND (power)

## ADC14C080CISQE/NOPB
designator U?
14-Bit, 65/80 MSPS A/D Converter, 32-pin LLP, Pb-Free; PartNumber: ADC14C080CISQE/NOPB; Manufacturer: National Semiconductor; PackageTopMarking: NS*UZXYTT*14C080; PowerWise: N; CompType: ADC IC; Published: 1-Mar-2010; DatasheetVersion: Aug-2007; PackageVersion: revB, Oct-2009; PackageReference: SQA32A; Publisher: Altium Limited; PackageDescription: LLP, Quad, 5 x 5 x 0.8mm, 32 Lead, 0.5mm Pitch, No Pullback 3.1 x 3.1 Exposed Pad; Supplier 1: Digi-Key; Supplier Part Number 1: ADC14C080CISQETR-ND; Supplier 2: Digi-Key; Supplier Part Number 2: ADC14C080CISQECT-ND; Supplier 3: Digi-Key; Supplier Part Number 3: ADC14C080CISQEDKR-ND; RoHS: Y; PinCount: 32; ComponentLink1Description: ADC14C080 Datasheet; ComponentLink1URL: http://www.national.com/ds/AD/ADC14C080.pdf; ComponentLink2Description: ADC14C080 Web Page; ComponentLink2URL: http://www.national.com/pf/AD/ADC14C080.html; ComponentLink3Description: SQA32A Package Page; ComponentLink3URL: http://www.national.com/packaging/folders/sqa32a.html
footprint SQA32A (QFN, 32-Leads, Body 5x5mm, Pitch 0.5mm, NSC Recommended)
pins: 1 VRN, 2 VRP, 3 VA (power), 4 AGND (power), 5 VIN+ (in), 6 VIN- (in), 7 AGND (power), 8 VA (power), 9 AGND (power), 10 VA (power), 11 CLK (in), 12 OF/DCS (in), 13 D0 (out), 14 D1 (out), 15 D2 (out), 16 D3 (out), 17 D4 (out), 18 D5 (out), 19 D6 (out), 20 VDR (power), 21 DRDY (out), 22 DRGND (power), 23 D7 (out), 24 D8 (out), 25 D9 (out), 26 D10 (out), 27 D11 (out), 28 D12 (out), 29 D13 (out), 30 PD (in), 31 VREF (power), 32 VCMO, 33 AGND (power)

## ADC14C105CISQ
designator U?
14-Bit, 105 MSPS A/D Converter, 33-pin LLP; PartNumber: ADC14C105CISQ; Manufacturer: National Semiconductor; PackageTopMarking: NS*UZXYTT*14C105; PowerWise: Y; CompType: ADC IC; Published: 4-Dec-2008; LatestRevisionDate: 1-Oct-2010; LatestRevisionNote: Update datasheet to version Aug-2007.; DatasheetVersion: Aug-2007; PackageVersion: revB, Oct-2009; PackageReference: SQA32A; Publisher: Altium Limited; PackageDescription: LLP, Quad, 5 x 5 x 0.8mm, 32 Lead, 0.5mm Pitch, No Pullback 3.1 x 3.1 Exposed Pad; RoHS: N; PinCount: 32; ComponentLink1Description: ADC14C105 Datasheet; ComponentLink1URL: http://www.national.com/ds/AD/ADC14C105.pdf; ComponentLink2Description: ADC14C105 Web Page; ComponentLink2URL: http://www.national.com/pf/AD/ADC14C105.html; ComponentLink3Description: SQA32A Package Page; ComponentLink3URL: http://www.national.com/packaging/folders/sqa32a.html
footprint SQA32A (QFN, 32-Leads, Body 5x5mm, Pitch 0.5mm, NSC Recommended)
pins: 1 VRN, 2 VRP, 3 VA (power), 4 AGND (power), 5 VIN+ (in), 6 VIN- (in), 7 AGND (power), 8 VA (power), 9 AGND (power), 10 VA (power), 11 CLK (in), 12 OF/DCS (in), 13 D0 (out), 14 D1 (out), 15 D2 (out), 16 D3 (out), 17 D4 (out), 18 D5 (out), 19 D6 (out), 20 VDR (power), 21 DRDY (out), 22 DRGND (power), 23 D7 (out), 24 D8 (out), 25 D9 (out), 26 D10 (out), 27 D11 (out), 28 D12 (out), 29 D13 (out), 30 PD (in), 31 VREF (power), 32 VCMO, 33 AGND (power)

## ADC14C105CISQ/NOPB
designator U?
14-Bit, 105 MSPS A/D Converter, 32-pin LLP, Pb-Free; PartNumber: ADC14C105CISQ/NOPB; Manufacturer: National Semiconductor; PackageTopMarking: NS*UZXYTT*14C105; PowerWise: Y; CompType: ADC IC; Published: 1-Mar-2010; LatestRevisionDate: 1-Oct-2010; LatestRevisionNote: Update datasheet to version Aug-2007.; DatasheetVersion: Aug-2007; PackageVersion: revB, Oct-2009; PackageReference: SQA32A; Publisher: Altium Limited; PackageDescription: LLP, Quad, 5 x 5 x 0.8mm, 32 Lead, 0.5mm Pitch, No Pullback 3.1 x 3.1 Exposed Pad; Supplier 1: Digi-Key; Supplier Part Number 1: ADC14C105CISQ-ND; RoHS: Y; PinCount: 32; ComponentLink1Description: ADC14C105 Datasheet; ComponentLink1URL: http://www.national.com/ds/AD/ADC14C105.pdf; ComponentLink2Description: ADC14C105 Web Page; ComponentLink2URL: http://www.national.com/pf/AD/ADC14C105.html; ComponentLink3Description: SQA32A Package Page; ComponentLink3URL: http://www.national.com/packaging/folders/sqa32a.html
footprint SQA32A (QFN, 32-Leads, Body 5x5mm, Pitch 0.5mm, NSC Recommended)
pins: 1 VRN, 2 VRP, 3 VA (power), 4 AGND (power), 5 VIN+ (in), 6 VIN- (in), 7 AGND (power), 8 VA (power), 9 AGND (power), 10 VA (power), 11 CLK (in), 12 OF/DCS (in), 13 D0 (out), 14 D1 (out), 15 D2 (out), 16 D3 (out), 17 D4 (out), 18 D5 (out), 19 D6 (out), 20 VDR (power), 21 DRDY (out), 22 DRGND (power), 23 D7 (out), 24 D8 (out), 25 D9 (out), 26 D10 (out), 27 D11 (out), 28 D12 (out), 29 D13 (out), 30 PD (in), 31 VREF (power), 32 VCMO, 33 AGND (power)

## ADC14C105CISQE
designator U?
14-Bit, 105 MSPS A/D Converter, 33-pin LLP; PartNumber: ADC14C105CISQE; Manufacturer: National Semiconductor; PackageTopMarking: NS*UZXYTT*14C105E; PowerWise: Y; CompType: ADC IC; Published: 4-Dec-2008; LatestRevisionDate: 1-Oct-2010; LatestRevisionNote: Update datasheet to version Aug-2007.; DatasheetVersion: Aug-2007; PackageVersion: revB, Oct-2009; PackageReference: SQA32A; Publisher: Altium Limited; PackageDescription: LLP, Quad, 5 x 5 x 0.8mm, 32 Lead, 0.5mm Pitch, No Pullback 3.1 x 3.1 Exposed Pad; RoHS: Y; PinCount: 32; ComponentLink1Description: ADC14C105 Datasheet; ComponentLink1URL: http://www.national.com/ds/AD/ADC14C105.pdf; ComponentLink2Description: ADC14C105 Web Page; ComponentLink2URL: http://www.national.com/pf/AD/ADC14C105.html; ComponentLink3Description: SQA32A Package Page; ComponentLink3URL: http://www.national.com/packaging/folders/sqa32a.html
footprint SQA32A (QFN, 32-Leads, Body 5x5mm, Pitch 0.5mm, NSC Recommended)
pins: 1 VRN, 2 VRP, 3 VA (power), 4 AGND (power), 5 VIN+ (in), 6 VIN- (in), 7 AGND (power), 8 VA (power), 9 AGND (power), 10 VA (power), 11 CLK (in), 12 OF/DCS (in), 13 D0 (out), 14 D1 (out), 15 D2 (out), 16 D3 (out), 17 D4 (out), 18 D5 (out), 19 D6 (out), 20 VDR (power), 21 DRDY (out), 22 DRGND (power), 23 D7 (out), 24 D8 (out), 25 D9 (out), 26 D10 (out), 27 D11 (out), 28 D12 (out), 29 D13 (out), 30 PD (in), 31 VREF (power), 32 VCMO, 33 AGND (power)

## ADC14C105CISQE/NOPB
designator U?
14-Bit, 105 MSPS A/D Converter, 32 pin LLP; PartNumber: ADC14C105CISQE/NOPB; Manufacturer: National Semiconductor; PackageTopMarking: NS*UZXYTT*14C105; PowerWise: N; CompType: ADC IC; Published: 16-Nov-2010; DatasheetVersion: Aug-2007; PackageVersion: revB, Oct-2009; PackageReference: SQA32A; Publisher: Altium Limited; PackageDescription: LLP, Quad, 5 x 5 x 0.8mm, 32 Lead, 0.5mm Pitch, No Pullback 3.1 x 3.1 Exposed Pad; Supplier 1: Digi-Key; Supplier Part Number 1: ADC14C105CISQETR-ND; Supplier 2: Digi-Key; Supplier Part Number 2: ADC14C105CISQECT-ND; Supplier 3: Digi-Key; Supplier Part Number 3: ADC14C105CISQEDKR-ND; Supplier 4: Farnell; Supplier Part Number 4: 1673963; RoHS: Y; PinCount: 32; ComponentLink1Description: ADC14C105 Datasheet; ComponentLink1URL: http://www.national.com/ds/AD/ADC14C105.pdf; ComponentLink2Description: ADC14C105 Web Page; ComponentLink2URL: http://www.national.com/pf/AD/ADC14C105.html; ComponentLink3Description: SQA32A Package Page; ComponentLink3URL: http://www.national.com/packaging/folders/sqa32a.html
footprint SQA32A (QFN, 32-Leads, Body 5x5mm, Pitch 0.5mm, NSC Recommended)
pins: 1 VRN, 2 VRP, 3 VA (power), 4 AGND (power), 5 VIN+ (in), 6 VIN- (in), 7 AGND (power), 8 VA (power), 9 AGND (power), 10 VA (power), 11 CLK (in), 12 OF/DCS (in), 13 D0 (out), 14 D1 (out), 15 D2 (out), 16 D3 (out), 17 D4 (out), 18 D5 (out), 19 D6 (out), 20 VDR (power), 21 DRDY (out), 22 DRGND (power), 23 D7 (out), 24 D8 (out), 25 D9 (out), 26 D10 (out), 27 D11 (out), 28 D12 (out), 29 D13 (out), 30 PD (in), 31 VREF (power), 32 VCMO, 33 AGND (power)

## ADC14DC080CISQ
designator U?
Dual 14-Bit, 80 MSPS A/D Converter with CMOS Outputs, 61-pin LLP; PartNumber: ADC14DC080CISQ; Manufacturer: National Semiconductor; PackageTopMarking: NS*UZXYTT*14DC080*CISQ; PowerWise: Y; CompType: ADC IC; Published: 29-May-2009; DatasheetVersion: Nov-2008; PackageVersion: revA, Jun-2005; PackageReference: SQA60A; Publisher: Altium Limited; PackageDescription: LLP, Quad, 9 x 9 x 0.8mm, 60 Lead, 0.5mm Pitch, No Pullback; RoHS: N; PinCount: 60; ComponentLink1Description: ADC14DC080 Datasheet; ComponentLink1URL: http://www.national.com/ds/AD/ADC14DC080.pdf; ComponentLink2Description: ADC14DC080 Web Page; ComponentLink2URL: http://www.national.com/pf/AD/ADC14DC080.html; ComponentLink3Description: SQA60A Package Page; ComponentLink3URL: http://www.national.com/packaging/folders/sqa60a.html
footprint SQA60A (QFN, 60-Leads, Body 9x9mm, Pitch 0.5mm, NSC Recommended)
part A pins: 2 VINA- (in), 3 VINA+ (in), 5 VRPA (in), 6 VRNA (in), 7 VCMOA (in), 9 VCMOB (in), 10 VRNB (in), 11 VRPB (in), 13 VINB+ (in), 14 VINB- (in), 18 CLK (in), 19 OF/DCS (in), 20 PD_B (in), 21 DB0 (LSB) (out), 22 DB1 (out), 23 DB2 (out), 24 DB3 (out), 27 DB4 (out), 28 DB5 (out), 29 DB6 (out), 30 DB7 (out), 31 DB8 (out), 32 DB9 (out), 33 DB10 (out), 34 DB11 (out), 35 DB12 (out), 36 DB13 (MSB) (out), 39 DRDY (in), 40 DA0 (LSB) (out), 41 DA1 (out), 42 DA2 (out), 43 DA3 (out), 44 DA4 (out), 45 DA5 (out), 46 DA6 (out), 47 DA7 (out), 48 DA8 (out), 49 DA9 (out), 52 DA10 (out), 53 DA11 (out), 54 DA12 (out), 55 DA13 (MSB) (out), 56 NC, 57 PD_A (in), 59 VREF (in)
part B pins: 1 AGND (power), 4 AGND (power), 8 VA (power), 12 AGND (power), 15 AGND (power), 16 VA (power), 17 VA (power), 25 DRGND (power), 26 VDR (power), 37 DRGND (power), 38 VDR (power), 50 VDR (power), 51 DRGND (power), 58 VA (power), 60 VA (power), 61 AGND (power)

## ADC14DC080CISQ/NOPB
designator U?
Dual 14-Bit, 80 MSPS A/D Converter with CMOS Outputs, 60-pin LLP, Pb-Free; PartNumber: ADC14DC080CISQ/NOPB; Manufacturer: National Semiconductor; PackageTopMarking: NS*UZXYTTE#*14DC080*CISQ; PowerWise: Y; CompType: ADC IC; Published: 1-Mar-2010; DatasheetVersion: Nov-2008; PackageVersion: revA, Jun-2005; PackageReference: SQA60A; Publisher: Altium Limited; PackageDescription: LLP, Quad, 9 x 9 x 0.8mm, 60 Lead, 0.5mm Pitch, No Pullback; RoHS: Y; PinCount: 60; ComponentLink1Description: ADC14DC080 Datasheet; ComponentLink1URL: http://www.national.com/ds/AD/ADC14DC080.pdf; ComponentLink2Description: ADC14DC080 Web Page; ComponentLink2URL: http://www.national.com/pf/AD/ADC14DC080.html; ComponentLink3Description: SQA60A Package Page; ComponentLink3URL: http://www.national.com/packaging/folders/sqa60a.html
footprint SQA60A (QFN, 60-Leads, Body 9x9mm, Pitch 0.5mm, NSC Recommended)
part A pins: 2 VINA- (in), 3 VINA+ (in), 5 VRPA (in), 6 VRNA (in), 7 VCMOA (in), 9 VCMOB (in), 10 VRNB (in), 11 VRPB (in), 13 VINB+ (in), 14 VINB- (in), 18 CLK (in), 19 OF/DCS (in), 20 PD_B (in), 21 DB0 (LSB) (out), 22 DB1 (out), 23 DB2 (out), 24 DB3 (out), 27 DB4 (out), 28 DB5 (out), 29 DB6 (out), 30 DB7 (out), 31 DB8 (out), 32 DB9 (out), 33 DB10 (out), 34 DB11 (out), 35 DB12 (out), 36 DB13 (MSB) (out), 39 DRDY (in), 40 DA0 (LSB) (out), 41 DA1 (out), 42 DA2 (out), 43 DA3 (out), 44 DA4 (out), 45 DA5 (out), 46 DA6 (out), 47 DA7 (out), 48 DA8 (out), 49 DA9 (out), 52 DA10 (out), 53 DA11 (out), 54 DA12 (out), 55 DA13 (MSB) (out), 56 NC, 57 PD_A (in), 59 VREF (in)
part B pins: 1 AGND (power), 4 AGND (power), 8 VA (power), 12 AGND (power), 15 AGND (power), 16 VA (power), 17 VA (power), 25 DRGND (power), 26 VDR (power), 37 DRGND (power), 38 VDR (power), 50 VDR (power), 51 DRGND (power), 58 VA (power), 60 VA (power), 61 AGND (power)

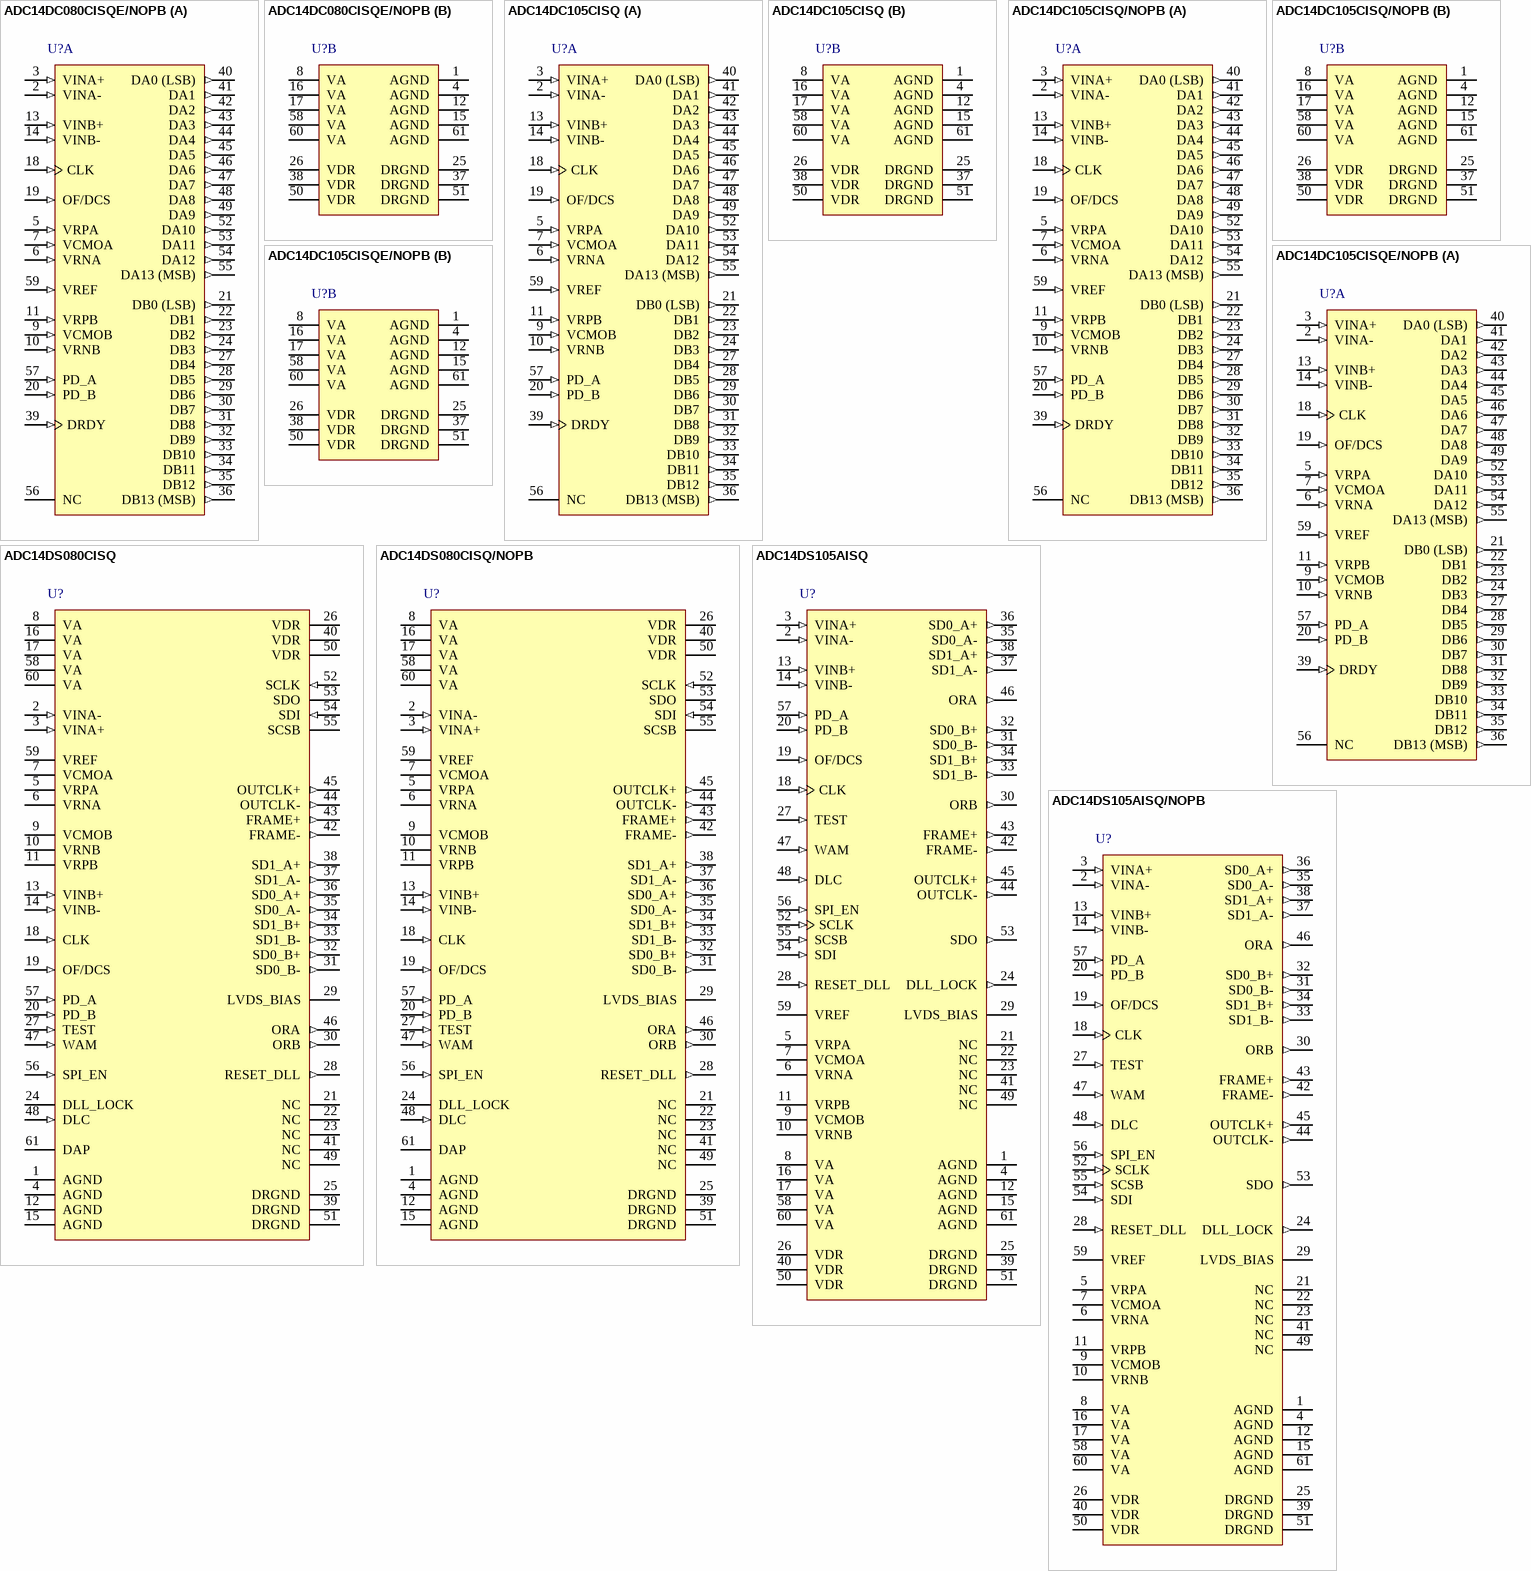
[diagram p20: symbols ADC14DC080CISQE/NOPB to ADC14DS105AISQ/NOPB]

## ADC14DC080CISQE/NOPB
designator U?
Dual 14-Bit, 80 MSPS A/D Converter with CMOS Outputs, 60-pin LLP, Pb-Free; PartNumber: ADC14DC080CISQE/NOPB; Manufacturer: National Semiconductor; PackageTopMarking: NS*UZXYTTE#*14DC080*CISQ; PowerWise: N; CompType: ADC IC; Published: 1-Mar-2010; DatasheetVersion: Nov-2008; PackageVersion: revA, Jun-2005; PackageReference: SQA60A; Publisher: Altium Limited; PackageDescription: LLP, Quad, 9 x 9 x 0.8mm, 60 Lead, 0.5mm Pitch, No Pullback; Supplier 1: Digi-Key; Supplier Part Number 1: ADC14DC080CISQECT-ND; Supplier 2: Digi-Key; Supplier Part Number 2: ADC14DC080CISQEDKR-ND; RoHS: Y; PinCount: 60; ComponentLink1Description: ADC14DC080 Datasheet; ComponentLink1URL: http://www.national.com/ds/AD/ADC14DC080.pdf; ComponentLink2Description: ADC14DC080 Web Page; ComponentLink2URL: http://www.national.com/pf/AD/ADC14DC080.html; ComponentLink3Description: SQA60A Package Page; ComponentLink3URL: http://www.national.com/packaging/folders/sqa60a.html
footprint SQA60A (QFN, 60-Leads, Body 9x9mm, Pitch 0.5mm, NSC Recommended)
part A pins: 2 VINA- (in), 3 VINA+ (in), 5 VRPA (in), 6 VRNA (in), 7 VCMOA (in), 9 VCMOB (in), 10 VRNB (in), 11 VRPB (in), 13 VINB+ (in), 14 VINB- (in), 18 CLK (in), 19 OF/DCS (in), 20 PD_B (in), 21 DB0 (LSB) (out), 22 DB1 (out), 23 DB2 (out), 24 DB3 (out), 27 DB4 (out), 28 DB5 (out), 29 DB6 (out), 30 DB7 (out), 31 DB8 (out), 32 DB9 (out), 33 DB10 (out), 34 DB11 (out), 35 DB12 (out), 36 DB13 (MSB) (out), 39 DRDY (in), 40 DA0 (LSB) (out), 41 DA1 (out), 42 DA2 (out), 43 DA3 (out), 44 DA4 (out), 45 DA5 (out), 46 DA6 (out), 47 DA7 (out), 48 DA8 (out), 49 DA9 (out), 52 DA10 (out), 53 DA11 (out), 54 DA12 (out), 55 DA13 (MSB) (out), 56 NC, 57 PD_A (in), 59 VREF (in)
part B pins: 1 AGND (power), 4 AGND (power), 8 VA (power), 12 AGND (power), 15 AGND (power), 16 VA (power), 17 VA (power), 25 DRGND (power), 26 VDR (power), 37 DRGND (power), 38 VDR (power), 50 VDR (power), 51 DRGND (power), 58 VA (power), 60 VA (power), 61 AGND (power)

## ADC14DC105CISQ
designator U?
Dual 14-Bit, 105 MSPS A/D Converter with CMOS Outputs, 61-pin LLP; PartNumber: ADC14DC105CISQ; Manufacturer: National Semiconductor; PackageTopMarking: NS*UZXYTTE#*14DC105*CISQ; PowerWise: Y; CompType: ADC IC; Published: 29-May-2009; DatasheetVersion: Oct-2008; PackageVersion: revA, Jun-2005; PackageReference: SQA60A; Publisher: Altium Limited; PackageDescription: LLP, Quad, 9 x 9 x 0.8mm, 60 Lead, 0.5mm Pitch, No Pullback; RoHS: N; PinCount: 60; ComponentLink1Description: ADC14DC105 Datasheet; ComponentLink1URL: http://www.national.com/ds/AD/ADC14DC105.pdf; ComponentLink2Description: ADC14DC105 Web Page; ComponentLink2URL: http://www.national.com/pf/AD/ADC14DC105.html; ComponentLink3Description: SQA60A Package Page; ComponentLink3URL: http://www.national.com/packaging/folders/sqa60a.html
footprint SQA60A (QFN, 60-Leads, Body 9x9mm, Pitch 0.5mm, NSC Recommended)
part A pins: 2 VINA- (in), 3 VINA+ (in), 5 VRPA (in), 6 VRNA (in), 7 VCMOA (in), 9 VCMOB (in), 10 VRNB (in), 11 VRPB (in), 13 VINB+ (in), 14 VINB- (in), 18 CLK (in), 19 OF/DCS (in), 20 PD_B (in), 21 DB0 (LSB) (out), 22 DB1 (out), 23 DB2 (out), 24 DB3 (out), 27 DB4 (out), 28 DB5 (out), 29 DB6 (out), 30 DB7 (out), 31 DB8 (out), 32 DB9 (out), 33 DB10 (out), 34 DB11 (out), 35 DB12 (out), 36 DB13 (MSB) (out), 39 DRDY (in), 40 DA0 (LSB) (out), 41 DA1 (out), 42 DA2 (out), 43 DA3 (out), 44 DA4 (out), 45 DA5 (out), 46 DA6 (out), 47 DA7 (out), 48 DA8 (out), 49 DA9 (out), 52 DA10 (out), 53 DA11 (out), 54 DA12 (out), 55 DA13 (MSB) (out), 56 NC, 57 PD_A (in), 59 VREF (in)
part B pins: 1 AGND (power), 4 AGND (power), 8 VA (power), 12 AGND (power), 15 AGND (power), 16 VA (power), 17 VA (power), 25 DRGND (power), 26 VDR (power), 37 DRGND (power), 38 VDR (power), 50 VDR (power), 51 DRGND (power), 58 VA (power), 60 VA (power), 61 AGND (power)

## ADC14DC105CISQ/NOPB
designator U?
Dual 14-Bit, 105 MSPS A/D Converter with CMOS Outputs, 60-pin LLP, Pb-Free; PartNumber: ADC14DC105CISQ/NOPB; Manufacturer: National Semiconductor; PackageTopMarking: NS*UZXYTTE#*14DC105*CISQ; PowerWise: Y; CompType: ADC IC; Published: 1-Mar-2010; DatasheetVersion: Oct-2008; PackageVersion: revA, Jun-2005; PackageReference: SQA60A; Publisher: Altium Limited; PackageDescription: LLP, Quad, 9 x 9 x 0.8mm, 60 Lead, 0.5mm Pitch, No Pullback; Supplier 1: Digi-Key; Supplier Part Number 1: ADC14DC105CISQ-ND; RoHS: Y; PinCount: 60; ComponentLink1Description: ADC14DC105 Datasheet; ComponentLink1URL: http://www.national.com/ds/AD/ADC14DC105.pdf; ComponentLink2Description: ADC14DC105 Web Page; ComponentLink2URL: http://www.national.com/pf/AD/ADC14DC105.html; ComponentLink3Description: SQA60A Package Page; ComponentLink3URL: http://www.national.com/packaging/folders/sqa60a.html
footprint SQA60A (QFN, 60-Leads, Body 9x9mm, Pitch 0.5mm, NSC Recommended)
part A pins: 2 VINA- (in), 3 VINA+ (in), 5 VRPA (in), 6 VRNA (in), 7 VCMOA (in), 9 VCMOB (in), 10 VRNB (in), 11 VRPB (in), 13 VINB+ (in), 14 VINB- (in), 18 CLK (in), 19 OF/DCS (in), 20 PD_B (in), 21 DB0 (LSB) (out), 22 DB1 (out), 23 DB2 (out), 24 DB3 (out), 27 DB4 (out), 28 DB5 (out), 29 DB6 (out), 30 DB7 (out), 31 DB8 (out), 32 DB9 (out), 33 DB10 (out), 34 DB11 (out), 35 DB12 (out), 36 DB13 (MSB) (out), 39 DRDY (in), 40 DA0 (LSB) (out), 41 DA1 (out), 42 DA2 (out), 43 DA3 (out), 44 DA4 (out), 45 DA5 (out), 46 DA6 (out), 47 DA7 (out), 48 DA8 (out), 49 DA9 (out), 52 DA10 (out), 53 DA11 (out), 54 DA12 (out), 55 DA13 (MSB) (out), 56 NC, 57 PD_A (in), 59 VREF (in)
part B pins: 1 AGND (power), 4 AGND (power), 8 VA (power), 12 AGND (power), 15 AGND (power), 16 VA (power), 17 VA (power), 25 DRGND (power), 26 VDR (power), 37 DRGND (power), 38 VDR (power), 50 VDR (power), 51 DRGND (power), 58 VA (power), 60 VA (power), 61 AGND (power)

## ADC14DC105CISQE/NOPB
designator U?
Dual 14-Bit, 105 MSPS A/D Converter with CMOS Outputs, 60-pin LLP, Pb-Free; PartNumber: ADC14DC105CISQE/NOPB; Manufacturer: National Semiconductor; PackageTopMarking: NS*UZXYTTE#*14DC105*CISQ; PowerWise: N; CompType: ADC IC; Published: 1-Mar-2010; DatasheetVersion: Oct-2008; PackageVersion: revA, Jun-2005; PackageReference: SQA60A; Publisher: Altium Limited; PackageDescription: LLP, Quad, 9 x 9 x 0.8mm, 60 Lead, 0.5mm Pitch, No Pullback; Supplier 1: Digi-Key; Supplier Part Number 1: ADC14DC105CISQETR-ND; Supplier 2: Digi-Key; Supplier Part Number 2: ADC14DC105CISQECT-ND; Supplier 3: Digi-Key; Supplier Part Number 3: ADC14DC105CISQEDKR-ND; RoHS: Y; PinCount: 60; ComponentLink1Description: ADC14DC105 Datasheet; ComponentLink1URL: http://www.national.com/ds/AD/ADC14DC105.pdf; ComponentLink2Description: ADC14DC105 Web Page; ComponentLink2URL: http://www.national.com/pf/AD/ADC14DC105.html; ComponentLink3Description: SQA60A Package Page; ComponentLink3URL: http://www.national.com/packaging/folders/sqa60a.html
footprint SQA60A (QFN, 60-Leads, Body 9x9mm, Pitch 0.5mm, NSC Recommended)
part A pins: 2 VINA- (in), 3 VINA+ (in), 5 VRPA (in), 6 VRNA (in), 7 VCMOA (in), 9 VCMOB (in), 10 VRNB (in), 11 VRPB (in), 13 VINB+ (in), 14 VINB- (in), 18 CLK (in), 19 OF/DCS (in), 20 PD_B (in), 21 DB0 (LSB) (out), 22 DB1 (out), 23 DB2 (out), 24 DB3 (out), 27 DB4 (out), 28 DB5 (out), 29 DB6 (out), 30 DB7 (out), 31 DB8 (out), 32 DB9 (out), 33 DB10 (out), 34 DB11 (out), 35 DB12 (out), 36 DB13 (MSB) (out), 39 DRDY (in), 40 DA0 (LSB) (out), 41 DA1 (out), 42 DA2 (out), 43 DA3 (out), 44 DA4 (out), 45 DA5 (out), 46 DA6 (out), 47 DA7 (out), 48 DA8 (out), 49 DA9 (out), 52 DA10 (out), 53 DA11 (out), 54 DA12 (out), 55 DA13 (MSB) (out), 56 NC, 57 PD_A (in), 59 VREF (in)
part B pins: 1 AGND (power), 4 AGND (power), 8 VA (power), 12 AGND (power), 15 AGND (power), 16 VA (power), 17 VA (power), 25 DRGND (power), 26 VDR (power), 37 DRGND (power), 38 VDR (power), 50 VDR (power), 51 DRGND (power), 58 VA (power), 60 VA (power), 61 AGND (power)